# Altium footprint library PCB - CONNECTOR - MOLEX - MOLEX 1053091107.PcbLib: 1 footprints
Each footprint in its own frame and in the unit in brackets; x right, y up, seen from the top. Pads: shape width x height; smd on the part's side, far side on the other; paste and mask are expansions set on the pad; w line width, h text height; cw(c..) or ccw(c..) is an arc to the next point about the centre after c.
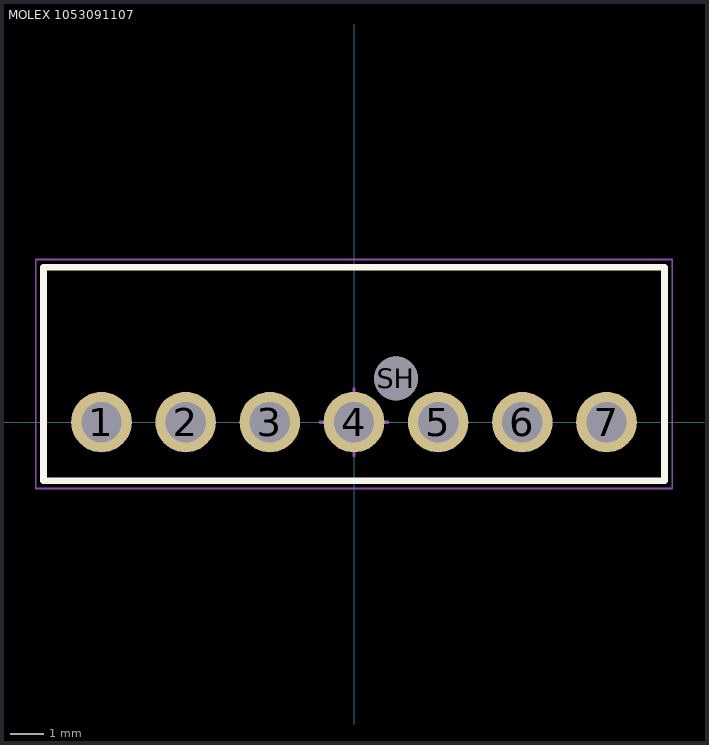
[diagram p0: the footprint, top view; thin cyan lines are the x and y axes]

## MOLEX 1053091107 [mm] "Connector Header Through Hole 7 position, 2mm Pitch, 18.44x6.34 mm Body"
height 10.51
pads (8):
  round 1.8 hole 1.2: 1(-7.5,0) 2(-5,0) 3(-2.5,0) 4(0,0) 5(2.5,0) 6(5,0) 7(7.5,0)
  round 1.3 hole 1.3: SH(1.25,1.3)
Top Overlay:
  lines w0.2: -9.22,-1.74 -9.22,4.6 9.22,4.6 9.22,-1.74 -9.22,-1.74
Mechanical 13:
  lines w0.1: -9.22,-1.74 -9.22,4.6 9.22,4.6 9.22,-1.74 -9.22,-1.74
Mechanical 15 (Mech15):
  lines w0.05: -9.45,-1.97 -9.45,4.83 9.45,4.83 9.45,-1.97 -9.45,-1.97
  lines w0.1: -1,0 0,0 ; 0,-1 0,0 ; 0,1 0,0 ; 1,0 0,0
3D body: height 10.51, standoff -3.2, extent -9.22,-1.74 9.22,4.6